# Altium footprint library custom-case.PcbLib: 168 footprints (part 5 of 11)
Each footprint in its own frame and in the unit in brackets; x right, y up, seen from the top. Pads: shape width x height; smd on the part's side, far side on the other; paste and mask are expansions set on the pad; w line width, h text height; cw(c..) or ccw(c..) is an arc to the next point about the centre after c.
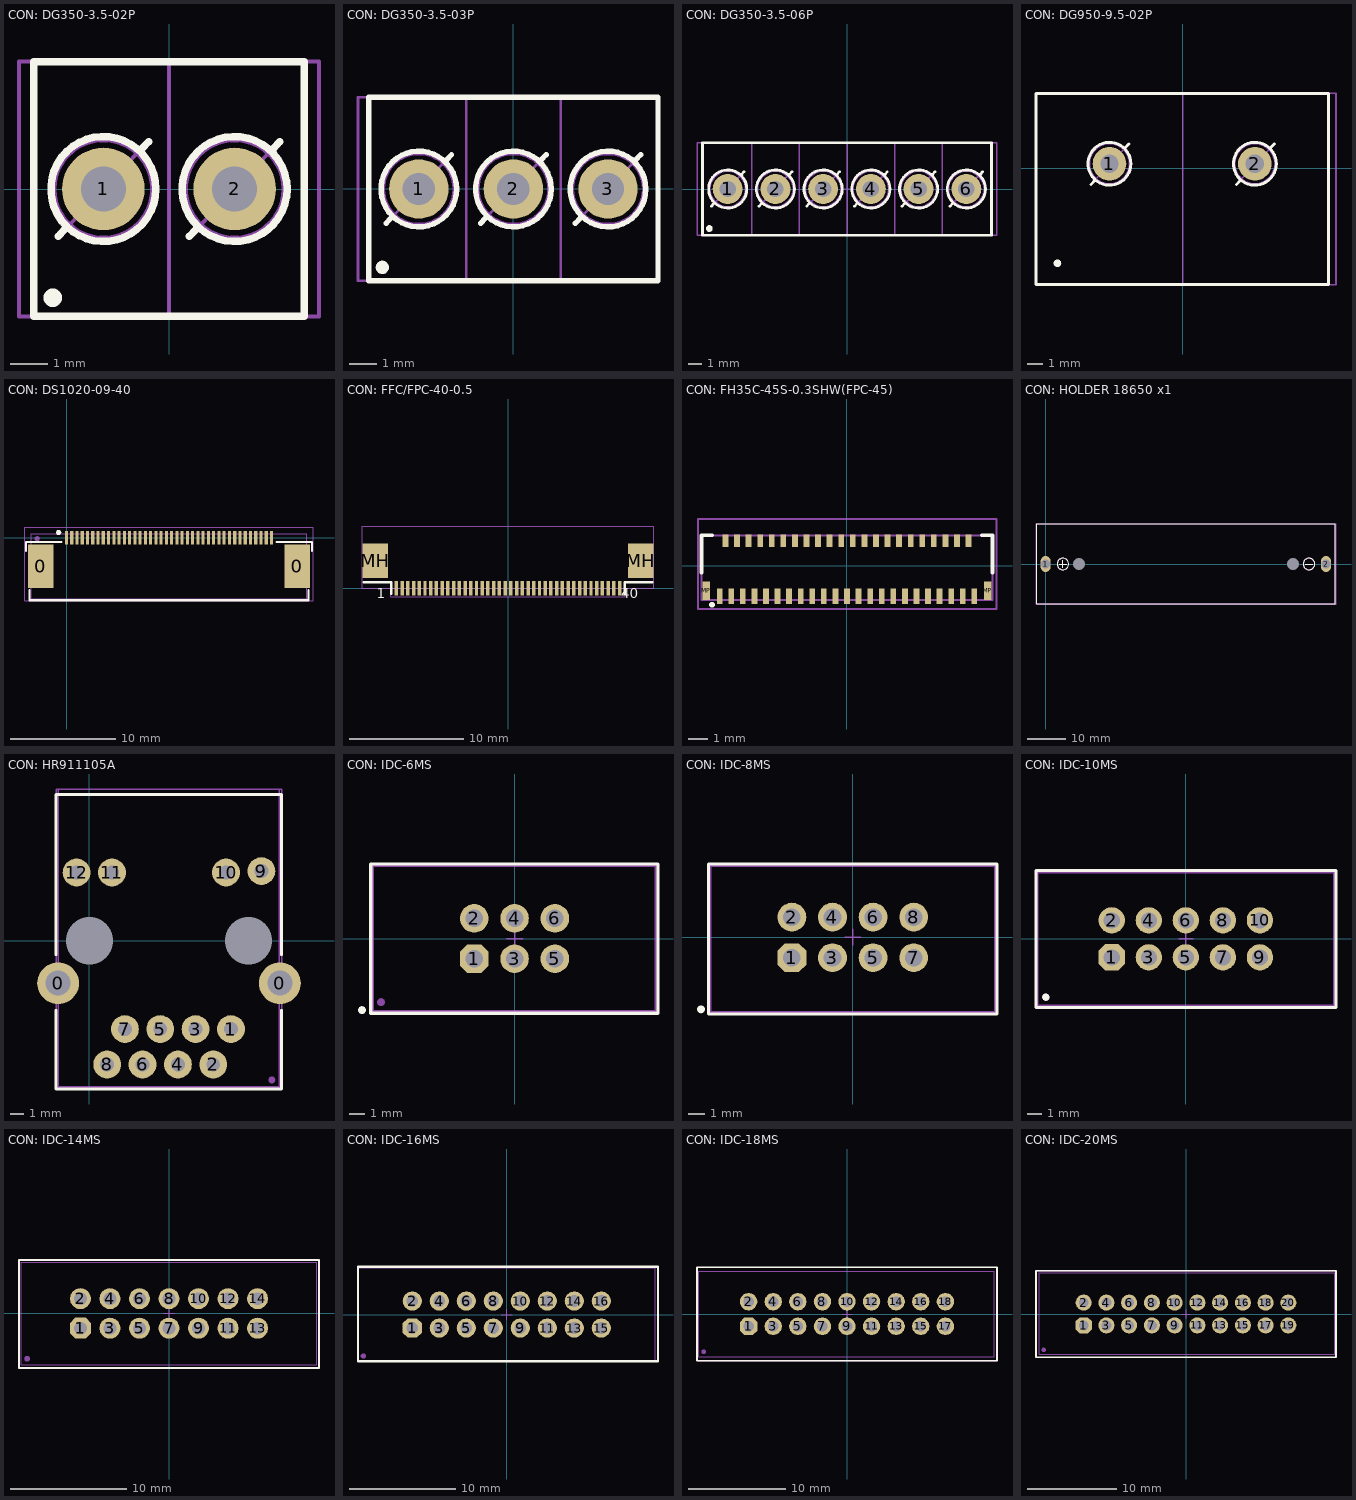
[diagram p4: the footprints below, top view; thin cyan lines are the x and y axes]

## CON: DG350-3.5-02P [mm]
pads (3):
  round 2.2 hole 1.2: 1(-1.75,0) 2(1.75,0)
  round 0.5 on Top Overlay: ""(-3.1,-2.9)
Top Overlay:
  circle w0.2: c1.75,0 r1.4
  circle w0.2: c-1.75,0 r1.4
  lines w0.2: -2.959,-1.266 -2.776,-1.074 ; -0.724,1.074 -0.541,1.267 ; 0.541,-1.266 0.724,-1.074 ; 2.776,1.074 2.959,1.267 ; -3.6,-3.4 3.6,-3.4 3.6,3.4 -3.6,3.4 -3.6,-3.4
Top Assy:
  circle w0.1: c-1.75,0 r1.3
  circle w0.1: c1.75,0 r1.3
  lines w0.1: -2.632,-0.931 -0.868,0.931 ; 0,-3.4 0,3.4 ; 0.868,-0.931 2.632,0.931 ; -4,-3.4 -4,3.4 4,3.4 4,-3.4 -4,-3.4
Size Area:
  lines w0.1: -4,-3.4 -4,3.4 4,3.4 4,-3.4 -4,-3.4
3D body "User Library-DG350-3,5-02P.STEP": height 8.4, standoff -3.4, extent -4,-3.4 4,3.4

## CON: DG350-3.5-03P [mm]
pads (4):
  round 2.2 hole 1.2: 1(-3.5,0) 2(0,0) 3(3.5,0)
  round 0.5 on Top Overlay: ""(-4.85,-2.9)
Top Overlay:
  circle w0.2: c-3.5,0 r1.4
  circle w0.2: c0,0 r1.4
  circle w0.2: c3.5,0 r1.4
  lines w0.2: -4.709,-1.266 -4.526,-1.074 ; -2.474,1.074 -2.291,1.266 ; -1.209,-1.266 -1.026,-1.074 ; 1.026,1.074 1.209,1.266 ; 2.291,-1.266 2.474,-1.074 ; 4.526,1.074 4.709,1.266 ; -5.35,-3.4 -5.35,3.4 5.35,3.4 5.35,-3.4 -5.35,-3.4
Top Assy:
  circle w0.1: c3.5,0 r1.3
  circle w0.1: c0,0 r1.3
  circle w0.1: c-3.5,0 r1.3
  lines w0.1: -4.382,-0.931 -2.618,0.931 ; -1.75,-3.4 -1.75,3.4 ; -0.882,-0.931 0.882,0.931 ; 1.75,-3.4 1.75,3.4 ; 2.618,-0.931 4.382,0.931 ; -5.75,-3.4 5.35,-3.4 5.35,3.4 -5.75,3.4 -5.75,-3.4
Size Area:
  lines w0.1: -5.75,-3.4 5.35,-3.4 5.35,3.4 -5.75,3.4 -5.75,-3.4
3D body "444.STEP": height 8.4, standoff -3.5, extent -5.75,-3.4 5.75,3.4

## CON: DG350-3.5-06P [mm]
pads (7):
  round 2.2 hole 1.2: 1(-8.75,0) 2(-5.25,0) 3(-1.75,0) 4(1.75,0) 5(5.25,0) 6(8.75,0)
  round 0.5 on Top Overlay: ""(-10.1,-2.9)
Top Overlay:
  circle w0.2: c-8.75,0 r1.4
  circle w0.2: c-5.25,0 r1.4
  circle w0.2: c-1.75,0 r1.4
  circle w0.2: c1.75,0 r1.4
  circle w0.2: c5.25,0 r1.4
  circle w0.2: c8.75,0 r1.4
  lines w0.2: -9.959,-1.266 -9.776,-1.074 ; -7.724,1.074 -7.541,1.267 ; -6.459,-1.266 -6.276,-1.074 ; -4.224,1.074 -4.041,1.267 ; -2.959,-1.266 -2.776,-1.074 ; -0.724,1.074 -0.541,1.267 ; 0.541,-1.266 0.724,-1.074 ; 2.776,1.074 2.959,1.267 ; 4.041,-1.266 4.224,-1.074 ; 6.276,1.074 6.459,1.267 ; 7.541,-1.266 7.724,-1.074 ; 9.776,1.074 9.959,1.267 ; -10.6,-3.4 -10.6,3.4 10.6,3.4 10.6,-3.4 -10.6,-3.4
Top Assy:
  circle w0.1: c8.75,0 r1.3
  circle w0.1: c5.25,0 r1.3
  circle w0.1: c1.75,0 r1.3
  circle w0.1: c-1.75,0 r1.3
  circle w0.1: c-5.25,0 r1.3
  circle w0.1: c-8.75,0 r1.3
  lines w0.1: -9.632,-0.931 -7.868,0.931 ; -7,-3.4 -7,3.4 ; -6.132,-0.931 -4.368,0.931 ; -3.5,-3.4 -3.5,3.4 ; -2.632,-0.931 -0.868,0.931 ; 0,-3.4 0,3.4 ; 0.868,-0.931 2.632,0.931 ; 3.5,-3.4 3.5,3.4 ; 4.368,-0.931 6.132,0.931 ; 7,-3.4 7,3.4 ; 7.868,-0.931 9.632,0.931 ; -11,-3.4 11,-3.4 11,3.4 -11,3.4 -11,-3.4
Size Area:
  lines w0.1: -0.45,0 0.5,0 ; 0,-0.5 0,0.5 ; -11,-3.4 11,-3.4 11,3.4 -11,3.4 -11,-3.4
3D body "DG350-3.5-06P.SLDPRT": height 8.42, standoff -3.48, extent -11,-3.4 11,3.4

## CON: DG950-9.5-02P [mm]
pads (3):
  round 2.2 hole 1.2: 1(-4.8,0.3) 2(4.7,0.3)
  round 0.5 on Top Overlay: ""(-8.2,-6.2)
Top Overlay:
  circle w0.2: c-4.8,0.3 r1.4
  circle w0.2: c4.7,0.3 r1.4
  lines w0.2: -6.002,-1.052 -5.72,-0.756 ; -3.818,1.298 -3.535,1.594 ; 3.498,-1.052 3.781,-0.756 ; 5.682,1.298 5.965,1.594 ; -9.6,-7.6 -9.6,4.9 9.5,4.9 9.5,-7.6 -9.6,-7.6
Top Assy:
  circle w0.1: c-4.8,0.3 r1.3
  circle w0.1: c4.7,0.3 r1.3
  lines w0.1: -5.632,-0.631 -3.9,1.2 ; 0,-7.6 0,4.9 ; 3.868,-0.631 5.6,1.2 ; -9.6,-7.6 -9.6,4.9 10,4.9 10,-7.6 -9.6,-7.6
Size Area:
  lines w0.1: -9.6,-7.6 10,-7.6 10,4.9 -9.6,4.9 -9.6,-7.6
3D body "796739-2.SLDPRT": height 21.65, standoff -4.85, extent -9.62,-7.6 10.02,4.9

## CON: DS1020-09-40 [mm]
pads (44):
  rect 2.4x4.15 smd: 0(-2.45,-2.7) 0(21.95,-2.7)
  rect 0.3x1.25 smd: 1(0,0) 2(0.5,0) 3(1,0) 4(1.5,0) 5(2,0) 6(2.5,0) 7(3,0) 8(3.5,0) 9(4,0) 10(4.5,0) 11(5,0) 12(5.5,0) 13(6,0) 14(6.5,0) 15(7,0) 16(7.5,0) 17(8,0) 18(8.5,0) 19(9,0) 20(9.5,0) 21(10,0) 22(10.5,0) 23(11,0) 24(11.5,0) 25(12,0) 26(12.5,0) 27(13,0) 28(13.5,0) 29(14,0) 30(14.5,0) 31(15,0) 32(15.5,0) 33(16,0) 34(16.5,0) 35(17,0) 36(17.5,0) 37(18,0) 38(18.5,0) 39(19,0) 40(19.5,0)
  round 0.5 on Mech1: ""(-2.8,-0.1)
  round 0.5 on Top Overlay: ""(-0.75,0.5)
Top Overlay:
  lines w0.2: -3.875,-1.25 -3.875,-0.4 -3.85,-0.4 -3.8,-0.4 -0.5,-0.4 ; -3.525,-5 -3.525,-5.95 23,-5.95 23.025,-5.95 23.025,-5 ; 20,-0.4 23.3,-0.4 23.35,-0.4 23.375,-0.4 23.375,-1.25
Top Assy:
  lines w0.1: -3.375,-5.8 -3.375,0.4 22.875,0.4 22.875,-5.8 -3.375,-5.8
Size Area:
  lines w0.1: -4,-6 -4,1 23.5,1 23.5,-6 -4,-6
3D body "4-1734844-0.stp": height 1.88, standoff -0.02, extent -3.375,-5.8 22.875,0.4

## CON: FFC/FPC-40-0.5 [mm]
pads (42):
  rect 0.3x1.25 smd mask+0.075: 1(-9.75,0) 2(-9.25,0) 3(-8.75,0) 4(-8.25,0) 5(-7.75,0) 6(-7.25,0) 7(-6.75,0) 8(-6.25,0) 9(-5.75,0) 10(-5.25,0) 11(-4.75,0) 12(-4.25,0) 13(-3.75,0) 14(-3.25,0) 15(-2.75,0) 16(-2.25,0) 17(-1.75,0) 18(-1.25,0) 19(-0.75,0) 20(-0.25,0) 21(0.25,0) 22(0.75,0) 23(1.25,0) 24(1.75,0) 25(2.25,0) 26(2.75,0) 27(3.25,0) 28(3.75,0) 29(4.25,0) 30(4.75,0) 31(5.25,0) 32(5.75,0) 33(6.25,0) 34(6.75,0) 35(7.25,0) 36(7.75,0) 37(8.25,0) 38(8.75,0) 39(9.25,0) 40(9.75,0)
  rect 2.2x3 smd mask+0.075: MH(-11.6,2.375) MH(11.6,2.375)
Top Overlay:
  lines w0.2: -12.6,0.5 -10.2,0.5 -10.2,-0.5 ; 10.2,-0.5 10.2,0.5 12.6,0.5
  text "1" at -11.477,-1.182 h1.5
  text "40" at 9.893,-1.19 h1.5
Top Assy:
  lines w0.1: -12.75,0 12.75,0 12.75,5.4 -12.75,5.4 -12.75,0
Size Area:
  lines w0.1: -12.75,0 -10.25,0 -10.25,-0.75 10.25,-0.75 10.25,0 12.75,0 12.75,1 12.75,4 12.75,5.4 -12.75,5.4 -12.75,4 -12.75,1 -12.75,0
3D body "affc20-40-050-sht-t.stp": height 2.07, standoff 0.03, extent -12.75,0 12.75,5.4

## CON: FH35C-45S-0.3SHW(FPC-45) [mm]
pads (47):
  rect 0.3x0.8 smd: 1(-6.596,-1.563) 3(-5.996,-1.563) 5(-5.396,-1.563) 7(-4.796,-1.563) 9(-4.196,-1.563) 11(-3.596,-1.563) 13(-2.996,-1.563) 15(-2.396,-1.563) 17(-1.796,-1.563) 19(-1.196,-1.563) 21(-0.596,-1.563) 23(0.004,-1.563) 25(0.604,-1.563) 27(1.204,-1.563) 29(1.804,-1.563) 31(2.404,-1.563) 33(3.004,-1.563) 35(3.604,-1.563) 37(4.204,-1.563) 39(4.804,-1.563) 41(5.404,-1.563) 43(6.004,-1.563) 45(6.604,-1.563)
  rect 0.3x0.65 smd: 2(-6.296,1.312) 4(-5.696,1.312) 6(-5.096,1.312) 8(-4.496,1.312) 10(-3.896,1.312) 12(-3.296,1.312) 14(-2.696,1.312) 16(-2.096,1.312) 18(-1.496,1.312) 20(-0.896,1.312) 22(-0.296,1.312) 24(0.304,1.312) 26(0.904,1.312) 28(1.504,1.312) 30(2.104,1.312) 32(2.704,1.312) 34(3.304,1.312) 36(3.904,1.312) 38(4.504,1.312) 40(5.104,1.312) 42(5.704,1.312) 44(6.304,1.312)
  rect 0.4x0.95 smd: MP(-7.296,-1.288) MP(7.304,-1.288)
Top Overlay:
  lines w0.2: -7.546,1.587 -7.546,-0.338 -7.546,1.587 ; -7.546,1.587 -6.996,1.587 -7.546,1.587 ; -7.046,-2.013 ccw(c-6.996,-2.013) -6.946,-2.013 ; -7.046,-2.013 cw(c-6.996,-2.013) -6.946,-2.013 ; -7.046,-2.013 ccw(c-6.996,-2.013) -6.946,-2.013 ; 7.554,1.587 7.004,1.587 7.554,1.587 ; 7.554,1.587 7.554,-0.338 7.554,1.587
3D model:
  lines w0.1: -7.546,-1.763 7.554,-1.763 7.554,1.587 -7.546,1.587 -7.546,-1.763
Size Area:
  lines w0.1: -7.725,-2.225 -7.725,2.425 7.75,2.425 7.75,-2.225 -7.725,-2.225
3D body "FH35-45S-0.3SHW.stp": height 0.84, standoff -0.06, extent -7.535,-1.817 7.565,2.383

## CON: HOLDER 18650 x1 [mm]
pads (4):
  oval 2.6x4.2 hole 2.4 square: 1(0,0) 2(72.9,0)
  round 0 hole 3.2: 2(8.7,0) 2(64.3,0)
Top Overlay:
  circle w0.2: c68.5,0 r1.5
  circle w0.2: c4.5,0 r1.5
  lines w0.2: 3.5,0 5.5,0 ; 4.5,-1 4.5,1 ; 67.5,0 69.5,0 ; -2.325,-10.4 75.325,-10.4 75.325,10.4 -2.325,10.4 -2.325,-10.4
Top Assy:
  lines w0.1: -2.325,-10.4 -2.325,10.4 75.325,10.4 75.325,-10.4 -2.325,-10.4
3D model:
  circle w0.1: c4.5,0 r1.5
  circle w0.1: c68.5,0 r1.5
  lines w0.1: 3.5,0 5.5,0 ; 4.5,-1 4.5,1 ; 67.5,0 69.5,0
Size Area:
  lines w0.1: -2.5,-10.5 75.5,-10.5 75.5,10.5 -2.5,10.5 -2.5,-10.5
3D body "User Library-18650 Full.STEP": height 21.65, standoff -3.83, extent -2.325,-10.4 75.325,10.4

## CON: HR911105A [mm]
height 14
pads (17):
  round 3 hole 1.8: 0(-2.25,-3.05) 0(13.68,-3.05)
  oval 0.7x0 hole 3.4: 0(0,0) 0(11.43,0)
  round 2 hole 1: 1(10.165,-6.35) 2(8.895,-8.89) 3(7.625,-6.35) 4(6.355,-8.89) 5(5.085,-6.35) 6(3.815,-8.89) 7(2.545,-6.35) 8(1.275,-8.89) 9(12.35,5) 10(9.81,4.9) 11(1.62,4.9) 12(-0.92,4.9)
  round 0.5 on Mech1: ""(13.1,-10)
Top Overlay:
  lines w0.2: -2.4,-5 -2.4,-10.65 13.8,-10.65 13.8,-5 ; -2.4,-1 -2.4,10.5 13.8,10.5 13.8,-1
Top Assy:
  lines w0.1: -2.24,-10.5 13.64,-10.5 13.64,10.9 -2.24,10.9 -2.24,-10.5
Size Area:
  lines w0.1: -2.4,-10.6 13.8,-10.6 13.8,10.9 -2.4,10.9 -2.4,-1 -2.4,-10.6
3D body "User Library-HR911105A.STEP": height 13.6, standoff -2.9, extent -2.24,-10.5 13.64,10.9

## CON: IDC-6MS [mm] "IDC-6MS 6 pin PCB-mount connector"
height 10
pads (8):
  oct 1.8x1.8 hole 1.1: 1(-2.54,-1.27)
  round 1.8 hole 1.1: 2(-2.54,1.27) 3(0,-1.27) 4(0,1.27) 5(2.54,-1.27) 6(2.54,1.27)
  round 0.5 on Top Overlay: ""(-9.6,-4.5)
  round 0.5 on Mech1: ""(-8.4,-4)
Top Overlay:
  lines w0.2: -9.05,-4.7 9.025,-4.7 9.025,4.7 -9.05,4.7 -9.05,-4.7
Top Assy:
  lines w0.1: -8.89,-4.55 -8.89,4.55 8.87,4.55 8.87,-4.55 -8.89,-4.55
Size Area:
  lines w0.1: -0.5,0 0.5,0 ; 0,-0.5 0,0.5 ; -8.975,-4.65 8.975,-4.65 8.975,4.65 -8.975,4.65 -8.975,-4.65
3D body "IDC-6MS.STEP": height 9, standoff -3, extent -8.89,-4.55 8.87,4.55

## CON: IDC-8MS [mm]
height 10
pads (9):
  oct 1.8x1.8 hole 1.1: 1(-3.81,-1.27)
  round 1.8 hole 1.1: 2(-3.81,1.27) 3(-1.27,-1.27) 4(-1.27,1.27) 5(1.27,-1.27) 6(1.27,1.27) 7(3.81,-1.27) 8(3.81,1.27)
  round 0.5 on Top Overlay: ""(-9.5,-4.5)
Top Overlay:
  lines w0.2: -9.025,-4.8 -9.025,4.6 9.025,4.6 9.025,-4.8 -9.025,-4.8
Top Assy:
  lines w0.1: -8.89,-4.65 -8.89,4.45 8.89,4.45 8.89,-4.65 -8.89,-4.65
Size Area:
  lines w0.1: -0.5,0 0.5,0 ; 0,-0.5 0,0.5 ; -8.975,-4.75 -8.975,4.55 8.975,4.55 8.975,-4.75 -8.975,-4.75
3D body "6666.STEP": height 8.9, standoff -3.2, extent -8.89,-4.65 8.89,4.45

## CON: IDC-10MS [mm] "IDC-10MS 10 pin PCB-mount header"
height 10
pads (12):
  oct 1.8x1.8 hole 1.1: 1(-5.08,-1.27)
  round 1.8 hole 1.1: 2(-5.08,1.27) 3(-2.54,-1.27) 4(-2.54,1.27) 5(0,-1.27) 6(0,1.27) 7(2.54,-1.27) 8(2.54,1.27) 9(5.08,-1.27) 10(5.08,1.27)
  round 0.5 on Mech1: ""(-9.6,-4)
  round 0.5 on Top Overlay: ""(-9.6,-4)
Top Overlay:
  lines w0.2: -10.275,-4.7 -10.275,4.675 10.3,4.675 10.3,-4.7 -10.275,-4.7
Top Assy:
  lines w0.1: -10.14,-4.572 10.16,-4.572 10.16,4.528 -10.14,4.528 -10.14,-4.572
Size Area:
  lines w0.1: -0.5,0 0.5,0 ; 0,-0.5 0,0.5 ; -10.225,-4.65 -10.225,4.625 10.25,4.625 10.25,-4.65 -10.225,-4.65
3D body "IDC-10MS.STEP": height 9, standoff -3.1, extent -10.14,-4.572 10.16,4.528

## CON: IDC-14MS [mm] "IDC-14MS connector"
height 9
pads (15):
  oct 1.8x1.8 hole 1.1: 1(-7.62,-1.27)
  round 1.8 hole 1.1: 2(-7.62,1.27) 3(-5.08,-1.27) 4(-5.08,1.27) 5(-2.54,-1.27) 6(-2.54,1.27) 7(0,-1.27) 8(0,1.27) 9(2.54,-1.27) 10(2.54,1.27) 11(5.08,-1.27) 12(5.08,1.27) 13(7.62,-1.27) 14(7.62,1.27)
  round 0.5 on Mech1: 38(-12.2,-3.9)
Top Overlay:
  lines w0.2: -12.9,-4.7 -12.9,4.6 12.9,4.6 12.9,-4.7 -12.9,-4.7
Top Assy:
  lines w0.1: -12.7,-4.4 12.7,-4.4 12.7,4.4 -12.7,4.4 -12.7,-4.4
Size Area:
  lines w0.1: -0.5,0 0.5,0 ; 0,-0.5 0,0.5 ; -12.9,-4.7 -12.9,4.6 12.9,4.6 12.9,-4.7 -12.9,-4.7
3D body "IDC-14MS.STEP": height 9.1, standoff -3, extent -12.715,-4.4 12.715,4.4

## CON: IDC-16MS [mm] "IDC-16MS straight leads pcb mount"
height 9
pads (17):
  oct 1.8x1.8 hole 1.1: 1(-8.89,-1.27)
  round 1.8 hole 1.1: 2(-8.89,1.27) 3(-6.35,-1.27) 4(-6.35,1.27) 5(-3.81,-1.27) 6(-3.81,1.27) 7(-1.27,-1.27) 8(-1.27,1.27) 9(1.27,-1.27) 10(1.27,1.27) 11(3.81,-1.27) 12(3.81,1.27) 13(6.35,-1.27) 14(6.35,1.27) 15(8.89,-1.27) 16(8.89,1.27)
  round 0.5 on Mech1: 39(-13.5,-3.9)
Top Overlay:
  lines w0.2: -14,-4.4 14.224,-4.4 14.224,4.5 -14,4.5 -14,-4.4
Top Assy:
  lines w0.1: -13.985,-4.4 -13.985,4.285 -13.985,4.4 13.985,4.4 13.985,-4.4 -13.985,-4.4
Size Area:
  lines w0.1: -0.5,0 0.5,0 ; 0,-0.5 0,0.5 ; -14,-4.4 14.224,-4.4 14.224,4.5 -14,4.5 -14,-4.4
3D body "IDC-16MS.STEP": height 9.1, standoff -3, extent -13.985,-4.4 13.985,4.4

## CON: IDC-18MS [mm]
height 10
pads (19):
  oct 1.8x1.8 hole 1.1: 1(-10.16,-1.27)
  round 1.8 hole 1.1: 2(-10.16,1.27) 3(-7.62,-1.27) 4(-7.62,1.27) 5(-5.08,-1.27) 6(-5.08,1.27) 7(-2.54,-1.27) 8(-2.54,1.27) 9(0,-1.27) 10(0,1.27) 11(2.54,-1.27) 12(2.54,1.27) 13(5.08,-1.27) 14(5.08,1.27) 15(7.62,-1.27) 16(7.62,1.27) 17(10.16,-1.27) 18(10.16,1.27)
  round 0.5 on Mech1: 40(-14.8,-3.9)
Top Overlay:
  lines w0.2: -15.494,-4.826 15.494,-4.826 15.494,4.826 -15.494,4.826 -15.494,-4.826
Top Assy:
  lines w0.1: -15.3,-4.4 -15.3,4.4 15.2,4.4 15.2,-4.4 -15.3,-4.4
Size Area:
  lines w0.1: -0.5,0 0.5,0 ; 0,-0.5 0,0.5 ; -15.494,-4.826 15.494,-4.826 15.494,4.826 -15.494,4.826 -15.494,-4.826
3D body "IDC-18MS.STEP": height 10.54, standoff -1, extent -15.28,-4.378 15.23,4.422

## CON: IDC-20MS [mm]
height 10
pads (21):
  oct 1.8x1.8 hole 1.1: 1(-11.43,-1.27)
  round 1.8 hole 1.1: 2(-11.43,1.27) 3(-8.89,-1.27) 4(-8.89,1.27) 5(-6.35,-1.27) 6(-6.35,1.27) 7(-3.81,-1.27) 8(-3.81,1.27) 9(-1.27,-1.27) 10(-1.27,1.27) 11(1.27,-1.27) 12(1.27,1.27) 13(3.81,-1.27) 14(3.81,1.27) 15(6.35,-1.27) 16(6.35,1.27) 17(8.89,-1.27) 18(8.89,1.27) 19(11.43,-1.27) 20(11.43,1.27)
  round 0.5 on Mech1: 41(-15.9,-4)
Top Overlay:
  lines w0.2: -16.764,-4.826 16.764,-4.826 16.764,4.826 -16.764,4.826 -16.764,-4.826
Top Assy:
  lines w0.1: -16.4,-4.5 -16.4,4.6 16.6,4.6 16.6,-4.5 -16.4,-4.5
Size Area:
  lines w0.1: -0.5,0 0.5,0 ; 0,-0.5 0,0.5 ; -16.764,-4.826 16.764,-4.826 16.764,4.826 -16.764,4.826 -16.764,-4.826
3D body "IDC-20MS.STEP": height 9, standoff -3, extent -16.43,-4.52 16.57,4.58